# EAGLE library part 481RV12172100 (library Eagle_SWITCHES (rev18c))
WS-RPTL 20 x 20mm Rotary / Push Button Switch with integrated LED, THT version <http://katalog.we-online.de/media/images/v2/Family_WS-RPTL_20x20_Button_Switch.jpg> Details see: http://katalog.we-online.de/en/em/RPTL_20X20_THT_ROTARY_PUSH_BUTTON_SWITCH 2015 (C) Wurth Elektronik
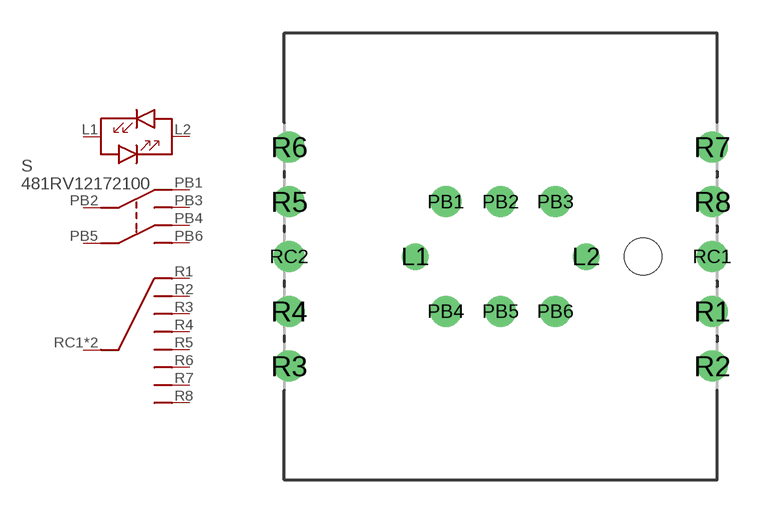
[diagram p95: symbol with the pads of 481RV12172100; footprint 481RV12172100]

Designator prefix S

## 481RV12172100  [481RV12172100]
L1  L1  pas
L2  L2  pas
PB1  PB1  pas
PB2  PB2  pas
PB3  PB3  pas
PB4  PB4  pas
PB5  PB5  pas
PB6  PB6  pas
R1  R1  pas
R2  R2  pas
R3  R3  pas
R4  R4  pas
R5  R5  pas
R6  R6  pas
R7  R7  pas
R8  R8  pas
RC1  C1  pas
RC2  C1  pas

## Footprint 481RV12172100 (pad centres in mm)
WS-RPTL 20 x 20mm Rotary / Push Button Switch with integrated LED, THT version
drill 0.7: L1 -3.9,0; L2 3.9,0
drill 0.9: PB1 -2.5,2.5; PB2 0,2.5; PB3 2.5,2.5; PB4 -2.5,-2.5; PB5 0,-2.5; PB6 2.5,-2.5; R1 9.65,-2.5; R2 9.65,-5; R3 -9.65,-5; R4 -9.65,-2.5; R5 -9.65,2.5; R6 -9.65,5; R7 9.65,5; R8 9.65,2.5; RC1 9.65,0; RC2 -9.65,0
hole 1.7 at 6.5,0